# Altium schematic symbol library DAC0832.SCHLIB: 1 symbol
Pins are listed as number, name and electrical type; pins without a type are passive.

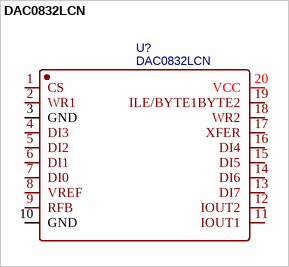
[diagram p0: symbol DAC0832LCN]

## DAC0832LCN
designator U?
BOM_Manufacturer: TI; spicePre: X; BOM_Supplier: LCSC; BOM_Manufacturer Part: DAC0832LCN; image: //image.lceda.cn/szlcsc/C9752.jpg; BOM_Supplier Part: C9752; spiceSymbolName: DAC0832LCN
footprint DIP-20_L26.8-W6.4-P2.54-LS7.6-BL
pins: 1 CS, 2 WR1, 3 GND, 4 DI3, 5 DI2, 6 DI1, 7 DI0, 8 VREF, 9 RFB, 10 GND, 11 IOUT1, 12 IOUT2, 13 DI7, 14 DI6, 15 DI5, 16 DI4, 17 XFER, 18 WR2, 19 ILE/BYTE1BYTE2, 20 VCC